# EAGLE library part FAULHABER-1524 (library FaulhaberMotors)
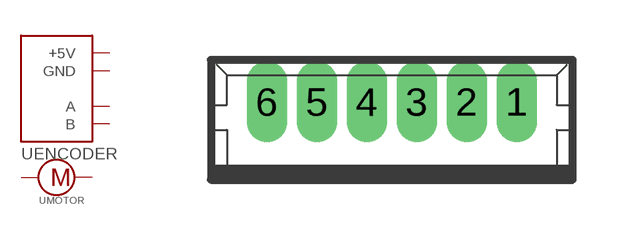
[diagram p0: symbol with the pads of 53047-06; footprint 53047-06]

Designator prefix -; gates ENCODER=ENCODER MOTOR=MOTOR

## FAULHABER-1524INLINE  [53047-06]
1  MOTOR:+  in
2  MOTOR:-  in
3  ENCODER:GND  pwr
4  ENCODER:+5V  pwr
5  ENCODER:B  out
6  ENCODER:A  out

## Footprint 53047-06 (pad centres in mm)
CONNECTOR wire to board 1.25 mm (.049 inch) pitch header straight Sourcxe: http://www.molex.com/pdm_docs/sd/530470210_sd.pdf
drill 0.5 pad 0.698 long: 1 3.125,0.45; 2 1.875,0.45; 3 0.625,0.45; 4 -0.625,0.45; 5 -1.875,0.45; 6 -3.125,0.45